# Altium footprint library AltiumDesigner.PcbLib: 1 footprints
Each footprint in its own frame and in the unit in brackets; x right, y up, seen from the top. Pads: shape width x height; smd on the part's side, far side on the other; paste and mask are expansions set on the pad; w line width, h text height; cw(c..) or ccw(c..) is an arc to the next point about the centre after c.
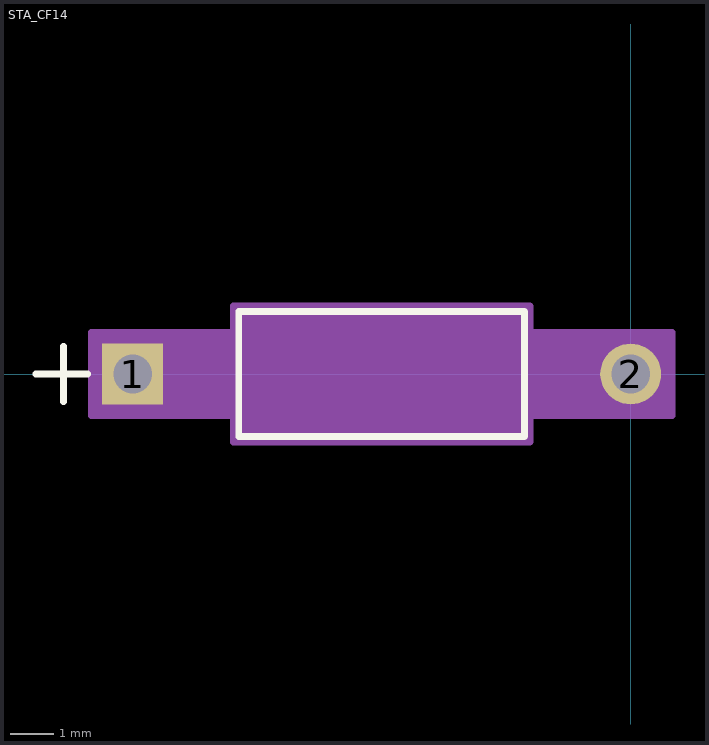
[diagram p0: the footprint, top view; thin cyan lines are the x and y axes]

## STA_CF14 [mil]
pads (2):
  rect 55x55 hole 35 mask+0: 1(-450,0)
  round 55 hole 35 mask+0: 2(0,0)
Top Overlay:
  lines w6: -537.5,0 -490.6,0 ; -512.5,-25 -512.5,25 ; -354,-56.5 -96,-56.5 -96,56.5 -354,56.5 -354,-56.5
Mechanical 13:
  lines w1: -537.5,0 -487.5,0 ; -512.5,-25 -512.5,25 ; -450,0 -349,0 ; -101,0 0,0 ; -349,-51.5 -101,-51.5 -101,51.5 -349,51.5 -349,-51.5
Mechanical 15:
  region: -359,-37.5 -487.5,-37.5 -487.5,37.5 -359,37.5 -359,61.5 -91,61.5 -91,37.5 37.5,37.5 37.5,-37.5 -91,-37.5 -91,-61.5 -359,-61.5
  lines w6: -487.5,-37.5 -487.5,37.5 -359,37.5 -359,61.5 -91,61.5 -91,37.5 37.5,37.5 37.5,-37.5 -91,-37.5 -91,-61.5 -359,-61.5 -359,-37.5 -487.5,-37.5
3D body: height 10, standoff 0, extent 0,0 10,10